# EAGLE library part LSF0204XRUTR (library FaBo-LevelTranslator)
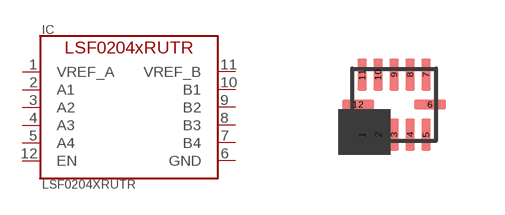
[diagram p10: symbol with the pads of UQFN-12; footprint UQFN-12]

Designator prefix IC

## LSF0204XRUTR  [UQFN-12]
1  VREF_A
2  A1
3  A2
4  A3
5  A4
6  GND
7  B4
8  B3
9  B2
10  B1
11  VREF_B
12  EN

## Footprint UQFN-12 (pad centres in mm)
smd 0.24 x 0.8: 1 -0.8,-0.75; 2 -0.4,-0.75; 3 0,-0.75; 4 0.4,-0.75; 5 0.8,-0.75; 7 0.8,0.75; 8 0.4,0.75; 9 0,0.75; 10 -0.4,0.75; 11 -0.8,0.75
smd 0.8 x 0.24: 6 0.9,0; 12 -0.9,0